# Altium footprint library 00001-A-01.PcbLib: 40 footprints (part 2 of 3)
Each footprint in its own frame and in the unit in brackets; x right, y up, seen from the top. Pads: shape width x height; smd on the part's side, far side on the other; paste and mask are expansions set on the pad; w line width, h text height; cw(c..) or ccw(c..) is an arc to the next point about the centre after c.
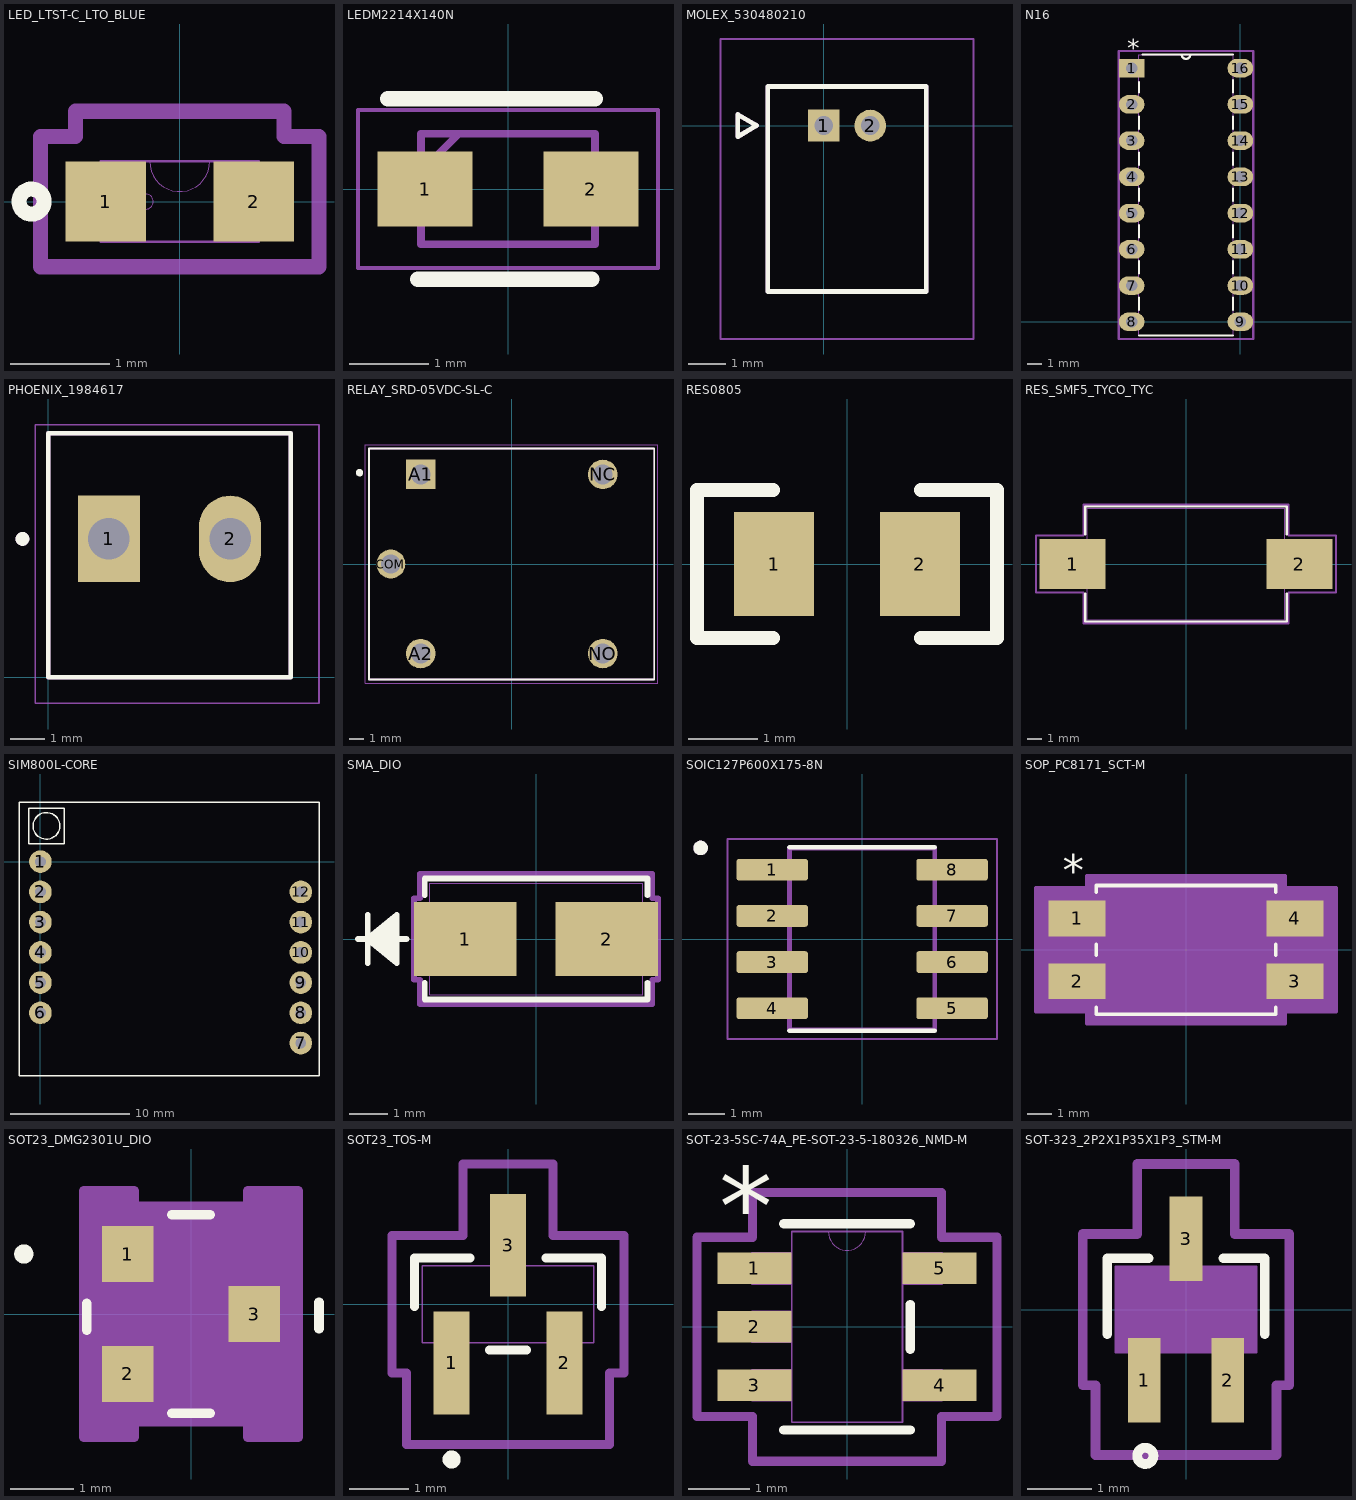
[diagram p1: the footprints below, top view; thin cyan lines are the x and y axes]

## LED_LTST-C_LTO_BLUE [mil]
pads (2):
  rect 32x32 smd paste+0 mask+0: 1(-29.53,0) 2(29.53,0)
Top Overlay:
  circle w6: c-59.06,0 r5
Mechanical 13:
  circle w0: c-13.53,0 r3
  lines w0: -12,16 ccw(c0,16) 12,16
  lines w1: -31.5,-16 -31.5,16 31.5,16 31.5,-16 -31.5,-16
Mechanical 15:
  lines w6: -55.53,-26 -41.5,-26 41.5,-26 55.53,-26 55.53,26 41.5,26 41.5,36 -41.5,36 -41.5,26 -55.53,26 -55.53,-26
3D body "LED0603_BLUE.step": height 35.43, standoff 0, extent -33.46,-17.72 33.47,17.71

## LEDM2214X140N [mm]
pads (2):
  rect 1.2x0.95 smd: 1(-1.05,0) 2(1.05,0)
Top Overlay:
  lines w0.2: -1.524,1.143 1.101,1.143 ; -1.143,-1.143 1.057,-1.143
Mechanical 15:
  lines w0.1: -1.1,0.225 -0.625,0.7 ; -1.1,-0.7 -1.1,0.7 1.1,0.7 1.1,-0.7 -1.1,-0.7
Mechanical 20:
  lines w0.05: -1.9,-1 -1.9,1 1.9,1 1.9,-1 -1.9,-1
3D body "LS_M676-Q2S1-1-Z.stp": height 1.2, standoff -0.02, extent -1.15,-0.7 1.15,0.7

## MOLEX_530480210 [mm]
height 3.5
pads (2):
  rect 0.85x0.85 / inner round 0.85 / far side rect 0.85x0.85 hole 0.5 mask+0.076: 1(0,0)
  round 0.85 hole 0.5 mask+0.076: 2(1.25,0)
Top Overlay:
  lines w0.127: -2.3,-0.3 -1.8,0 -2.3,0.3 -2.3,-0.3 ; -1.5,-4.45 -1.5,1.05 2.75,1.05 2.75,-4.45 -1.5,-4.45
Mechanical 13:
  lines w0.127: -2.3,-0.3 -1.8,0 -2.3,0.3 -2.3,-0.3 ; -1.5,-4.45 -1.5,1.05 2.75,1.05 2.75,-4.45 -1.5,-4.45
Mechanical 15:
  lines w0.05: -2.77,-5.72 -2.77,2.32 4.02,2.32 4.02,-5.72 -2.77,-5.72
3D body "530480210.step": height 3.6, standoff -2.2, extent -1.49,-4.404 2.76,1.096

## N16 [mil]
pads (16):
  rect 70.87x51 / inner oval 70.87x60 / far side rect 70.87x51 hole 31 paste-99999 mask-25.5: 1(-300,700)
  oval 70.87x51 / inner oval 70.87x60 / far side oval 70.87x51 hole 31 paste-99999 mask-25.5: 2(-300,600) 3(-300,500) 4(-300,400) 5(-300,300) 6(-300,200) 7(-300,100) 8(-300,0) 9(0,0) 10(0,100) 11(0,200) 12(0,300) 13(0,400) 14(0,500) 15(0,600) 16(0,700)
Top Overlay:
  lines w6: -280,-37.5 -20,-37.5 ; -280,33.01 -280,66.99 ; -280,133.01 -280,166.99 ; -280,233.01 -280,266.99 ; -280,333.01 -280,366.99 ; -280,433.01 -280,466.99 ; -280,533.01 -280,566.99 ; -280,633.01 -280,661.4 ; -269.25,737.5 -20,737.5 ; -162,737.5 ccw(c-150,737.5) -138,737.5 ; -20,33.01 -20,66.99 ; -20,133.01 -20,166.99 ; -20,233.01 -20,266.99 ; -20,333.01 -20,366.99 ; -20,433.01 -20,466.99 ; -20,533.01 -20,566.99 ; -20,633.01 -20,666.99
  text "*" at -312.5,730.5 h50
Mechanical 13:
  lines w0: -162,737.5 ccw(c-150,737.5) -138,737.5
  lines w1: -315.5,-15.5 -280,-15.5 -280,15.5 -315.5,15.5 -315.5,-15.5 ; -315.5,84.5 -280,84.5 -280,115.5 -315.5,115.5 -315.5,84.5 ; -315.5,184.5 -280,184.5 -280,215.5 -315.5,215.5 -315.5,184.5 ; -315.5,284.5 -280,284.5 -280,315.5 -315.5,315.5 -315.5,284.5 ; -315.5,384.5 -280,384.5 -280,415.5 -315.5,415.5 -315.5,384.5 ; -315.5,484.5 -280,484.5 -280,515.5 -315.5,515.5 -315.5,484.5 ; -315.5,584.5 -280,584.5 -280,615.5 -315.5,615.5 -315.5,584.5 ; -315.5,684.5 -280,684.5 -280,715.5 -315.5,715.5 -315.5,684.5 ; -280,-37.5 -280,737.5 -20,737.5 -20,-37.5 -280,-37.5 ; -20,-15.5 15.5,-15.5 15.5,15.5 -20,15.5 -20,-15.5 ; -20,84.5 15.5,84.5 15.5,115.5 -20,115.5 -20,84.5 ; -20,184.5 15.5,184.5 15.5,215.5 -20,215.5 -20,184.5 ; -20,284.5 15.5,284.5 15.5,315.5 -20,315.5 -20,284.5 ; -20,384.5 15.5,384.5 15.5,415.5 -20,415.5 -20,384.5 ; -20,484.5 15.5,484.5 15.5,515.5 -20,515.5 -20,484.5 ; -20,584.5 15.5,584.5 15.5,615.5 -20,615.5 -20,584.5 ; -20,684.5 15.5,684.5 15.5,715.5 -20,715.5 -20,684.5
  text "*" at -312.5,730.5 h50
Mechanical 15:
  lines w6: -335.5,-47.5 -335.5,747.5 35.5,747.5 35.5,-47.5 -335.5,-47.5
3D body "N16.step": height 205.12, standoff -100, extent -305,-37.48 15,737.48

## PHOENIX_1984617 [mm]
height 9.3
pads (2):
  rect 1.8x2.5 / inner oval 1.8x2.5 / far side rect 1.8x2.5 hole 1.2: 1(1.75,4)
  oval 1.8x2.5 hole 1.2: 2(5.25,4)
Top Overlay:
  circle w0.2: c-0.75,4 r0.1
  lines w0.127: 0,0 0,7.05 7,7.05 7,0 0,0
Mechanical 13:
  circle w0.2: c-0.75,4 r0.1
  lines w0.127: 0,0 0,7.05 7,7.05 7,0 0,0
Mechanical 15:
  lines w0.05: -0.38,-0.75 -0.38,7.3 7.82,7.3 7.82,-0.75 -0.38,-0.75
3D body "1984617.step": height 9.15, standoff -4.5, extent -0.167,-0.508 7.533,7.042

## RELAY_SRD-05VDC-SL-C [mm]
pads (5):
  rect 1.98x1.98 / inner round 1.98 / far side rect 1.98x1.98 hole 1.32: A1(-6.1,6)
  round 1.98 hole 1.32: A2(-6.1,-6) NC(6.1,6) NO(6.1,-6)
  round 1.935 hole 1.29: COM(-8.1,0)
Top Overlay:
  circle w0.3: c-10.2,6.119 r0.1
  lines w0.127: -9.55,-7.75 -9.55,7.75 9.55,7.75 9.55,-7.75 -9.55,-7.75
Mechanical 13:
  lines w0.127: -9.55,-7.75 -9.55,7.75 9.55,7.75 9.55,-7.75 -9.55,-7.75
Mechanical 15:
  lines w0.05: -9.8,-8 -9.8,8 9.8,8 9.8,-8 -9.8,-8
3D body "step_temp.STEP": height 15.8, standoff -3, extent -9.6,-7.8 9.6,7.8

## RES0805 [mm]
height 0.8
pads (2):
  rect 1.15x1.5 smd: 1(-1.05,0) 2(1.05,0)
Top Overlay:
  lines w0.2: -1.067,-1.067 -2.159,-1.067 -2.159,1.067 -1.067,1.067 ; 1.067,-1.067 2.159,-1.067 2.159,1.067 1.067,1.067
3D body "RES0805.step": height 0.43, standoff -0.03, extent -1,-0.63 1,0.63

## RES_SMF5_TYCO_TYC [mil]
pads (2):
  rect 177x134 smd paste+0 mask+0: 1(-305,0) 2(305,0)
Top Overlay:
  lines w6: -271,-80.1 -271,-154.5 271,-154.5 271,-80.1 ; -271,80.1 -271,154.5 271,154.5 271,80.1
Mechanical 13:
  lines w1: -266,-149.5 -266,149.5 266,149.5 266,-149.5 -266,-149.5
Mechanical 15:
  lines w6: -403.5,-77 -276,-77 -276,-159.5 276,-159.5 276,-77 403.5,-77 403.5,77 276,77 276,159.5 -276,159.5 -276,77 -403.5,77 -403.5,-77
3D body "RES_SMF5_TYCO_TYC.step": height 267.99, standoff 0, extent -265.98,-149.49 265.98,149.49

## SIM800L-CORE [mm]
pads (12):
  round 1.9 hole 0.9: 1(0,0) 2(0,-2.54) 3(0,-5.08) 4(0,-7.62) 5(0,-10.16) 6(0,-12.7) 7(21.87,-15.24) 8(21.87,-12.7) 9(21.87,-10.16) 10(21.87,-7.62) 11(21.87,-5.08) 12(21.87,-2.54)
Top Overlay:
  circle w0.12: c0.5,3 r1.118
  lines w0.12: -1.8,-18 -1.8,-10.8 -1.8,5 0,5 20,5 23,5 23.4,5 23.4,-18 18,-18 0,-18 -1.8,-18 ; -1,1.5 -1,4.5 2,4.5 2,1.5 -1,1.5
3D body "SIM800L v10.step": height 5.78, standoff 0.01, extent -1.832,-17.85 23.186,5.15
3D body "68000-206HLF.step": height 5.69, standoff -5.11, extent -1.143,-13.843 1.267,1.397
3D body "68000-206HLF.step": height 4.91, standoff -5.89, extent 20.639,-16.51 23.049,-1.27

## SMA_DIO [mm]
pads (2):
  rect 2.68x1.93 smd paste+0 mask+0: 1(-1.857,0) 2(1.857,0)
Top Overlay:
  lines w0.152: -4.673,0 -3.403,0 ; -4.419,-0.635 -4.419,0.635 ; -3.657,-0.508 -4.419,0 ; -3.657,-0.381 -4.419,0 ; -3.657,-0.254 -4.419,0 ; -3.657,-0.127 -4.419,0 ; -3.657,0.127 -4.419,0 ; -3.657,0.254 -4.419,0 ; -3.657,0.381 -4.419,0 ; -3.657,0.508 -4.419,0 ; -2.922,-1.148 -2.922,-1.587 2.922,-1.587 2.922,-1.148 ; -2.922,1.148 -2.922,1.587 2.922,1.587 2.922,1.148 ; -4.419,0 -3.657,-0.635 -3.657,0.635 -4.419,0
Mechanical 13:
  lines w0.025: -4.673,0 -3.403,0 ; -4.419,-0.635 -4.419,0.635 ; -3.657,-0.508 -4.419,0 ; -3.657,-0.381 -4.419,0 ; -3.657,-0.254 -4.419,0 ; -3.657,-0.127 -4.419,0 ; -3.657,0.127 -4.419,0 ; -3.657,0.254 -4.419,0 ; -3.657,0.381 -4.419,0 ; -3.657,0.508 -4.419,0 ; -4.419,0 -3.657,-0.635 -3.657,0.635 -4.419,0 ; -2.795,-1.46 -2.795,1.46 2.795,1.46 2.795,-1.46 -2.795,-1.46
Mechanical 15:
  lines w0.152: -3.201,-1.069 -3.049,-1.069 -3.049,-1.714 3.049,-1.714 3.049,-1.069 3.201,-1.069 3.201,1.069 3.049,1.069 3.049,1.714 -3.049,1.714 -3.049,1.069 -3.201,1.069 -3.201,-1.069
3D body "SMA_DIO.step": height 2.35, standoff 0, extent -2.795,-1.46 2.795,1.46

## SOIC127P600X175-8N [mm]
pads (8):
  rrect25% 1.97x0.6 smd: 1(-2.475,1.905) 2(-2.475,0.635) 3(-2.475,-0.635) 4(-2.475,-1.905) 5(2.475,-1.905) 6(2.475,-0.635) 7(2.475,0.635) 8(2.475,1.905)
Top Overlay:
  circle w0.2: c-4.445,2.505 r0.1
  lines w0.127: -2,-2.525 2,-2.525 ; -2,2.525 2,2.525
Mechanical 13:
  circle w0.2: c-4.445,2.505 r0.1
  lines w0.127: -2,-2.5 2,-2.5 2,2.5 -2,2.5 -2,-2.5
Mechanical 15:
  lines w0.05: -3.71,-2.75 3.71,-2.75 3.71,2.75 -3.71,2.75 -3.71,-2.75
3D body "step_temp.STEP": height 1.75, standoff 0, extent -3,-2.45 3,2.45

## SOP_PC8171_SCT-M [mil]
pads (4):
  rect 91x57 smd paste+0 mask+0: 1(-173.5,50) 2(-173.5,-50) 3(173.5,-50) 4(173.5,50)
Top Overlay:
  lines w6: -143,-91.6 -143,-102.5 143,-102.5 143,-91.6 ; -143,-8.4 -143,8.4 ; -143,91.6 -143,102.5 143,102.5 143,91.6 ; 143,-8.4 143,8.4
  text "*" at -196,102 h50
Mechanical 13:
  lines w0: -12,97.5 ccw(c0,97.5) 12,97.5
  lines w1: -197,-77.5 -197,-22.5 -138,-22.5 -138,-77.5 -197,-77.5 ; -197,22.5 -197,77.5 -138,77.5 -138,22.5 -197,22.5 ; -138,-97.5 138,-97.5 138,97.5 -138,97.5 -138,-97.5 ; 138,-77.5 138,-22.5 197,-22.5 197,-77.5 138,-77.5 ; 138,22.5 138,77.5 197,77.5 197,22.5 138,22.5
  text "*" at -135.5,44.5 h50
Mechanical 15:
  region: -158,-98.5 -239,-98.5 -239,98.5 -158,98.5 -158,117.5 158,117.5 158,98.5 239,98.5 239,-98.5 158,-98.5 158,-117.5 -158,-117.5
  lines w6: -239,-98.5 -239,98.5 -158,98.5 -158,117.5 158,117.5 158,98.5 239,98.5 239,-98.5 158,-98.5 158,-117.5 -158,-117.5 -158,-98.5 -239,-98.5
3D body "SOP_PC8171_SCT.step": height 157.09, standoff 0, extent -197.01,-97.48 197.01,97.48

## SOT23_DMG2301U_DIO [mil]
pads (3):
  rect 32x35 smd paste+0 mask+0: 1(-39.37,37.4) 2(-39.37,-37.4) 3(39.37,0)
Top Overlay:
  circle w6: c-104.27,37.4 r3
  lines w6: -65,-10 -65,6.6 ; -11.99,-62 11.99,-62 ; -11.99,62 11.99,62 ; 79.78,-9.29 79.78,7.31
Mechanical 13:
  circle w0: c-15.5,37.4 r3
  lines w0: -12,57 ccw(c0,57) 12,57
  lines w1: -25.5,-57 -25.5,57 25.5,57 25.5,-57 -25.5,-57
Mechanical 15:
  region: -35.5,-76.8 -66.87,-76.8 -66.87,76.8 -35.5,76.8 -35.5,67 35.5,67 35.5,76.8 66.87,76.8 66.87,-76.8 35.5,-76.8 35.5,-67 -35.5,-67
  lines w6: -66.87,-76.8 -35.5,-76.8 -35.5,-67 35.5,-67 35.5,-76.8 66.87,-76.8 66.87,76.8 35.5,76.8 35.5,67 -35.5,67 -35.5,76.8 -66.87,76.8 -66.87,-76.8
3D body "DMG2301U-7.step": height 43.31, standoff 0, extent -50,-57.09 44.49,57.09

## SOT23_TOS-M [mil]
pads (3):
  rect 24x68 smd paste+0 mask+0: 1(-37.4,-39) 2(37.4,-39) 3(0,39)
Top Overlay:
  circle w6: c-37.4,-103 r3
  lines w6: -62,-1.41 -62,30.5 -25.1,30.5 ; -12.3,-30.5 12.3,-30.5 ; 25.1,30.5 62,30.5 62,-1.41
Mechanical 13:
  circle w0: c-37.4,-15.5 r3
  lines w1: -57,-25.5 -57,25.5 57,25.5 57,-25.5 -57,-25.5 ; -47.4,-51 -27.4,-51 -27.4,-25.5 -47.4,-25.5 -47.4,-51 ; -10,25.5 -10,51 10,51 10,25.5 -10,25.5 ; 27.4,-51 47.4,-51 47.4,-25.5 27.4,-25.5 27.4,-51
Mechanical 15:
  lines w6: -77,-45.5 -67.4,-45.5 -67.4,-93 67.4,-93 67.4,-45.5 77,-45.5 77,45.5 30,45.5 30,93 -30,93 -30,45.5 -77,45.5 -77,-45.5
3D body "SOT23_TOS.step": height 43.11, standoff 0, extent -57.01,-50.98 57.01,50.98

## SOT-23-5SC-74A_PE-SOT-23-5-180326_NMD-M [mil]
pads (5):
  rect 47.5x20 smd paste+0 mask+0: 1(-59.25,37.4) 2(-59.25,0) 3(-59.25,-37.4) 4(59.25,-37.4) 5(59.25,37.4)
Top Overlay:
  lines w6: -40.5,-66 40.5,-66 ; -40.5,66 40.5,66 ; 40.5,-14.3 40.5,14.3
  text "*" at -81.75,52.4 h50
Mechanical 13:
  lines w0: -12,61 ccw(c0,61) 12,61
  lines w1: -61,-47.4 -35.5,-47.4 -35.5,-27.4 -61,-27.4 -61,-47.4 ; -61,-10 -35.5,-10 -35.5,10 -61,10 -61,-10 ; -61,27.4 -35.5,27.4 -35.5,47.4 -61,47.4 -61,27.4 ; -35.5,-61 -35.5,61 35.5,61 35.5,-61 -35.5,-61 ; 35.5,-47.4 61,-47.4 61,-27.4 35.5,-27.4 35.5,-47.4 ; 35.5,27.4 61,27.4 61,47.4 35.5,47.4 35.5,27.4
  text "*" at -38,9.4 h50
Mechanical 15:
  lines w6: -96,-57.4 -96,57.4 -60.5,57.4 -60.5,86 60.5,86 60.5,57.4 96,57.4 96,-57.4 60.5,-57.4 60.5,-86 -60.5,-86 -60.5,-57.4 -96,-57.4
3D body "SOT-23-5SC-74A_PE-SOT-23-5-180326_NMD.step": height 51.1, standoff 0, extent -60.98,-60.98 60.98,60.98

## SOT-323_2P2X1P35X1P3_STM-M [mil]
pads (3):
  rect 20x52 smd paste+0 mask+0: 1(-25.59,-43.5) 2(25.59,-43.5) 3(0,43.5)
Top Overlay:
  circle w6: c-25,-90 r5
  lines w6: -48.5,-15.27 -48.5,31.5 -23.1,31.5 ; 23.1,31.5 48.5,31.5 48.5,-15.27
Mechanical 13:
  circle w0: c-33.5,-16.5 r5
  lines w1: -43.5,-26.5 43.5,-26.5 43.5,26.5 -43.5,26.5 -43.5,-26.5 ; -33.59,-47.5 -33.59,-26.5 -17.59,-26.5 -17.59,-47.5 -33.59,-47.5 ; -8,26.5 8,26.5 8,47.5 -8,47.5 -8,26.5 ; 17.59,-47.5 17.59,-26.5 33.59,-26.5 33.59,-47.5 17.59,-47.5
Mechanical 15:
  region: 43.5,-26.5 -43.5,-26.5 -43.5,26.5 43.5,26.5
  lines w6: -63.5,-46.5 -63.5,46.5 -30,46.5 -30,89.5 30,89.5 30,46.5 63.5,46.5 63.5,-46.5 55.59,-46.5 55.59,-89.5 -55.59,-89.5 -55.59,-46.5 -63.5,-46.5
3D body "SOT-323_2P2X1P35X1P3_STM.step": height 43.11, standoff 0, extent -43.5,-47.52 43.5,47.52